# Altium schematic symbol library Connector-PinHeader.SchLib: 41 symbols
Pins are listed as number, name and electrical type; pins without a type are passive.

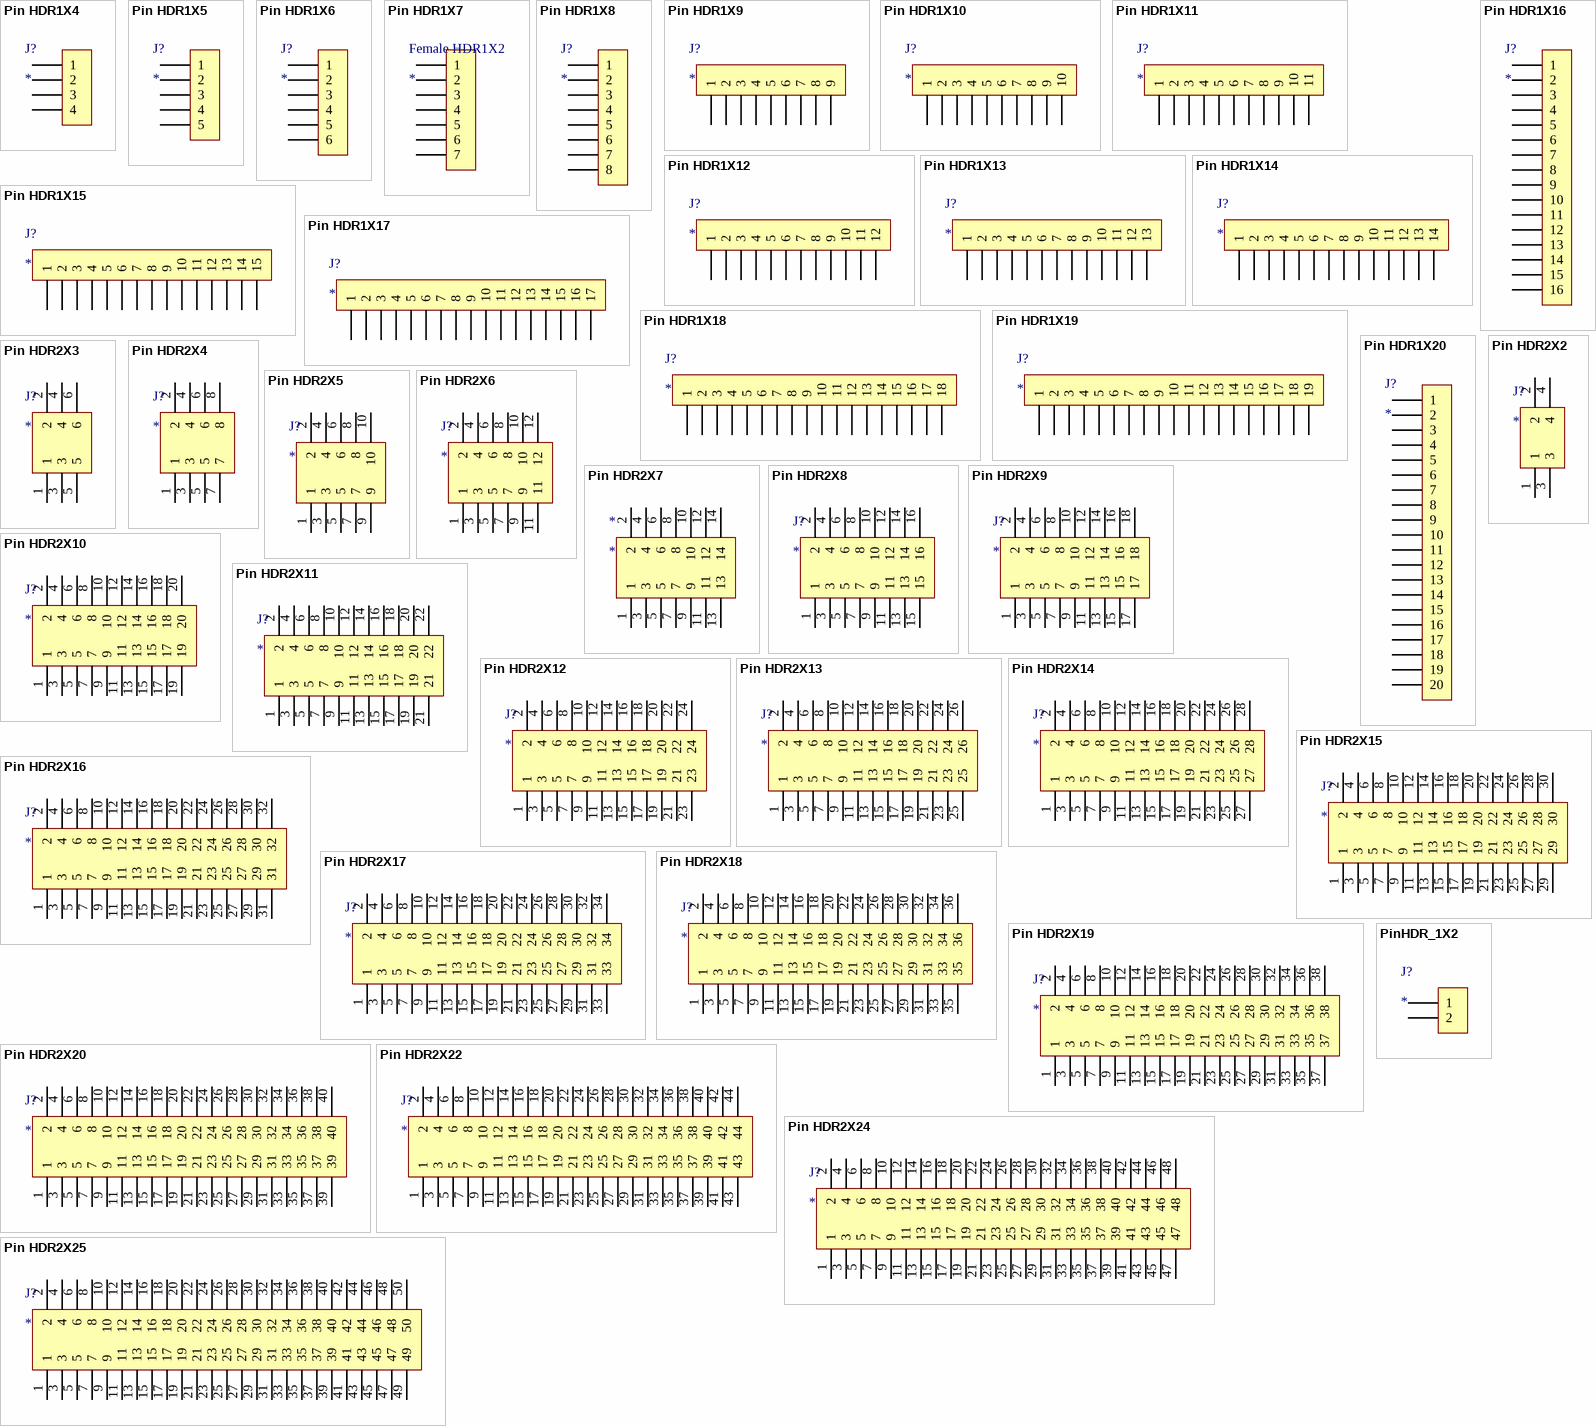
[diagram p0: symbols Pin HDR1X4 to PinHDR_1X2]

## Pin HDR1X4
designator J?
footprint Pin HDR1X4/2.54mm-S
footprint Pin HDR1X4/2.54mm-W (Connector; Header; 4 Position; Right Angle)
pins: 1, 2, 3, 4

## Pin HDR1X5
designator J?
footprint Pin HDR1X5/2mm-W
footprint Pin HDR1X5/2.54mm-S
footprint Pin HDR1X5/2.54mm-W (Connector; Header; 5 Position; Right Angle)
pins: 1, 2, 3, 4, 5

## Pin HDR1X6
designator J?
footprint Pin HDR1X6/2.54mm-S
footprint Pin HDR1X6/2.54mm-W (Connector; Header; 6 Position; Right Angle)
pins: 1, 2, 3, 4, 5, 6

## Pin HDR1X7
designator Female HDR1X2
footprint Pin HDR1X7/2.54mm-S
footprint Pin HDR1X7/2.54mm-W (Connector; Header; 7 Position; Right Angle)
footprint Pin HDR1X7/2mm-S
pins: 1, 2, 3, 4, 5, 6, 7

## Pin HDR1X8
designator J?
footprint Pin HDR1X8/2.54mm-S
footprint Pin HDR1X8/2.54mm-W (Connector; Header; 8 Position; Right Angle)
pins: 1, 2, 3, 4, 5, 6, 7, 8

## Pin HDR1X9
designator J?
footprint Pin HDR1X9/2.54mm-S (Connector; Header; 9 Position)
footprint Pin HDR1X9/2.54mm-W (Connector; Header; 9 Position; Right Angle)
pins: 1, 2, 3, 4, 5, 6, 7, 8, 9

## Pin HDR1X10
designator J?
footprint Pin HDR1X10/2.54mm-S
footprint Pin HDR1X10/2.54mm-W (Connector; Header; 10 Position; Right Angle)
pins: 1, 2, 3, 4, 5, 6, 7, 8, 9, 10

## Pin HDR1X11
designator J?
footprint Pin HDR1X11/2.54mm-S (Connector; Header; 11 Position)
footprint Pin HDR1X11/2.54mm-W (Connector; Header; 11 Position; Right Angle)
pins: 1, 2, 3, 4, 5, 6, 7, 8, 9, 10, 11

## Pin HDR1X12
designator J?
footprint Pin HDR1X12/2.54mm-S (Connector; Header; 12 Position)
footprint Pin HDR1X12/2.54mm-W (Connector; Header; 12 Position; Right Angle)
pins: 1, 2, 3, 4, 5, 6, 7, 8, 9, 10, 11, 12

## Pin HDR1X13
designator J?
footprint Pin HDR1X13/2.54mm-S
footprint Pin HDR1X13/2.54mm-W (Connector; Header; 13 Position; Right Angle)
pins: 1, 2, 3, 4, 5, 6, 7, 8, 9, 10, 11, 12, 13

## Pin HDR1X14
designator J?
footprint Pin HDR1X14/2.54mm-S (Connector; Header; 14 Position)
footprint Pin HDR1X14/2.54mm-W (Connector; Header; 14 Position; Right Angle)
pins: 1, 2, 3, 4, 5, 6, 7, 8, 9, 10, 11, 12, 13, 14

## Pin HDR1X15
designator J?
footprint Pin HDR1X15/2.54mm-S (Connector; Header; 15 Position)
footprint Pin HDR1X15/2.54mm-W (Connector; Header; 15 Position; Right Angle)
pins: 1, 2, 3, 4, 5, 6, 7, 8, 9, 10, 11, 12, 13, 14, 15

## Pin HDR1X16
designator J?
footprint Pin HDR1X16/2.54mm-S
footprint Pin HDR1X16/2.54mm-W (Connector; Header; 16 Position; Right Angle)
pins: 1, 2, 3, 4, 5, 6, 7, 8, 9, 10, 11, 12, 13, 14, 15, 16

## Pin HDR1X17
designator J?
footprint Pin HDR1X17/2.54mm-S (Connector; Header; 17 Position)
footprint Pin HDR1X17/2.54mm-W (Connector; Header; 17 Position; Right Angle)
pins: 1, 2, 3, 4, 5, 6, 7, 8, 9, 10, 11, 12, 13, 14, 15, 16, 17

## Pin HDR1X18
designator J?
footprint Pin HDR1X18/2.54mm-S (Connector; Header; 18 Position)
footprint Pin HDR1X18/2.54mm-W (Connector; Header; 18 Position; Right Angle)
pins: 1, 2, 3, 4, 5, 6, 7, 8, 9, 10, 11, 12, 13, 14, 15, 16, 17, 18

## Pin HDR1X19
designator J?
footprint Pin HDR1X19/2.54mm-S (Connector; Header; 19 Position)
footprint Pin HDR1X19/2.54mm-W (Connector; Header; 19 Position; Right Angle)
pins: 1, 2, 3, 4, 5, 6, 7, 8, 9, 10, 11, 12, 13, 14, 15, 16, 17, 18, 19

## Pin HDR1X20
designator J?
footprint Pin HDR1X20/2.54mm-S
footprint Pin HDR1X20/2.54mm-W (Connector; Header; 20 Position; Right Angle)
pins: 1, 2, 3, 4, 5, 6, 7, 8, 9, 10, 11, 12, 13, 14, 15, 16, 17, 18, 19, 20

## Pin HDR2X2
designator J?
footprint Pin HDR2X2/2.54mm-S (Connector; Header; 2x2 Position)
footprint Pin HDR2X2/2.54mm-W (Connector; Header; 2x2 Position; Right Angle)
pins: 1, 2, 3, 4

## Pin HDR2X3
designator J?
footprint Pin HDR2X3/2.54mm-S (Connector; Header; 3x2 Position)
footprint Pin HDR2X3/2.54mm-W (Connector; Header; 3x2 Position; Right Angle)
pins: 1, 2, 3, 4, 5, 6

## Pin HDR2X4
designator J?
footprint Pin HDR2X4/2.54mm-S (Connector; Header; 4x2 Position)
footprint Pin HDR2X4/2.54mm-W (Connector; Header; 4x2 Position; Right Angle)
pins: 1, 2, 3, 4, 5, 6, 7, 8

## Pin HDR2X5
designator J?
footprint Pin HDR2X5/2.54mm-S (Connector; Header; 5x2 Position)
footprint Pin HDR2X5/2.54mm-W (Connector; Header; 5x2 Position; Right Angle)
pins: 1, 2, 3, 4, 5, 6, 7, 8, 9, 10

## Pin HDR2X6
designator J?
footprint Pin HDR2X6/2.54mm-S (Connector; Header; 6x2 Position)
footprint Pin HDR2X6/2.54mm-W (Connector; Header; 6x2 Position; Right Angle)
pins: 1, 2, 3, 4, 5, 6, 7, 8, 9, 10, 11, 12

## Pin HDR2X7
designator *
footprint Pin HDR2X7/2.54mm-S (Connector; Header; 7x2 Position)
footprint Pin HDR2X7/2.54mm-W (Connector; Header; 7x2 Position; Right Angle)
pins: 1, 2, 3, 4, 5, 6, 7, 8, 9, 10, 11, 12, 13, 14

## Pin HDR2X8
designator J?
footprint Pin HDR2X8/2.54mm-S (Connector; Header; 8x2 Position)
footprint Pin HDR2X8/2.54mm-W (Connector; Header; 8x2 Position; Right Angle)
pins: 1, 2, 3, 4, 5, 6, 7, 8, 9, 10, 11, 12, 13, 14, 15, 16

## Pin HDR2X9
designator J?
footprint Pin HDR2X9/2.54mm-S (Connector; Header; 9x2 Position)
footprint Pin HDR2X9/2.54mm-W (Connector; Header; 9x2 Position; Right Angle)
pins: 1, 2, 3, 4, 5, 6, 7, 8, 9, 10, 11, 12, 13, 14, 15, 16, 17, 18

## Pin HDR2X10
designator J?
footprint Pin HDR2X10/2.54mm-S (Connector; Header; 10x2 Position)
footprint Pin HDR2X10/2.54mm-W (Connector; Header; 10x2 Position; Right Angle)
pins: 1, 2, 3, 4, 5, 6, 7, 8, 9, 10, 11, 12, 13, 14, 15, 16, 17, 18, 19, 20

## Pin HDR2X11
designator J?
footprint Pin HDR2X11/2.54mm-S (Connector; Header; 11x2 Position)
footprint Pin HDR2X11/2.54mm-W (Connector; Header; 11x2 Position; Right Angle)
pins: 1, 2, 3, 4, 5, 6, 7, 8, 9, 10, 11, 12, 13, 14, 15, 16, 17, 18, 19, 20, 21, 22

## Pin HDR2X12
designator J?
footprint Pin HDR2X12/2.54mm-S (Connector; Header; 12x2 Position)
footprint Pin HDR2X12/2.54mm-W (Connector; Header; 12x2 Position; Right Angle)
pins: 1, 2, 3, 4, 5, 6, 7, 8, 9, 10, 11, 12, 13, 14, 15, 16, 17, 18, 19, 20, 21, 22, 23, 24

## Pin HDR2X13
designator J?
footprint Pin HDR2X13/2.54mm-S (Connector; Header; 13x2 Position)
footprint Pin HDR2X13/2.54mm-W (Connector; Header; 13x2 Position; Right Angle)
pins: 1, 2, 3, 4, 5, 6, 7, 8, 9, 10, 11, 12, 13, 14, 15, 16, 17, 18, 19, 20, 21, 22, 23, 24, 25, 26

## Pin HDR2X14
designator J?
footprint Pin HDR2X14/2.54mm-S (Connector; Header; 14x2 Position)
footprint Pin HDR2X14/2.54mm-W (Connector; Header; 14x2 Position; Right Angle)
pins: 1, 2, 3, 4, 5, 6, 7, 8, 9, 10, 11, 12, 13, 14, 15, 16, 17, 18, 19, 20, 21, 22, 23, 24, 25, 26, 27, 28

## Pin HDR2X15
designator J?
footprint Pin HDR2X15/2.54mm-S (Connector; Header; 15x2 Position)
footprint Pin HDR2X15/2.54mm-W (Connector; Header; 15x2 Position; Right Angle)
pins: 1, 2, 3, 4, 5, 6, 7, 8, 9, 10, 11, 12, 13, 14, 15, 16, 17, 18, 19, 20, 21, 22, 23, 24, 25, 26, 27, 28, 29, 30

## Pin HDR2X16
designator J?
footprint Pin HDR2X16/2.54mm-S (Connector; Header; 16x2 Position)
footprint Pin HDR2X16/2.54mm-W (Connector; Header; 16x2 Position; Right Angle)
pins: 1, 2, 3, 4, 5, 6, 7, 8, 9, 10, 11, 12, 13, 14, 15, 16, 17, 18, 19, 20, 21, 22, 23, 24, 25, 26, 27, 28, 29, 30, 31, 32

## Pin HDR2X17
designator J?
footprint Pin HDR2X17/2.54mm-S (Connector; Header; 17x2 Position)
footprint Pin HDR2X17/2.54mm-W (Connector; Header; 17x2 Position; Right Angle)
pins: 1, 2, 3, 4, 5, 6, 7, 8, 9, 10, 11, 12, 13, 14, 15, 16, 17, 18, 19, 20, 21, 22, 23, 24, 25, 26, 27, 28, 29, 30, 31, 32, 33, 34

## Pin HDR2X18
designator J?
footprint Pin HDR2X18/2.54mm-S (Connector; Header; 18x2 Position)
footprint Pin HDR2X18/2.54mm-W (Connector; Header; 18x2 Position; Right Angle)
pins: 1, 2, 3, 4, 5, 6, 7, 8, 9, 10, 11, 12, 13, 14, 15, 16, 17, 18, 19, 20, 21, 22, 23, 24, 25, 26, 27, 28, 29, 30, 31, 32, 33, 34, 35, 36

## Pin HDR2X19
designator J?
footprint Pin HDR2X19/2.54mm-W (Connector; Header; 19x2 Position; Right Angle)
footprint Pin HDR2X19/2.54mm-S (Connector; Header; 19x2 Position)
pins: 1, 2, 3, 4, 5, 6, 7, 8, 9, 10, 11, 12, 13, 14, 15, 16, 17, 18, 19, 20, 21, 22, 23, 24, 25, 26, 27, 28, 29, 30, 31, 32, 33, 34, 35, 36, 37, 38

## Pin HDR2X20
designator J?
footprint Pin HDR2X20/2.54mm-S (Connector; Header; 20x2 Position)
footprint Pin HDR2X20/2.54mm-W (Connector; Header; 20x2 Position; Right Angle)
pins: 1, 2, 3, 4, 5, 6, 7, 8, 9, 10, 11, 12, 13, 14, 15, 16, 17, 18, 19, 20, 21, 22, 23, 24, 25, 26, 27, 28, 29, 30, 31, 32, 33, 34, 35, 36, 37, 38, 39, 40

## Pin HDR2X22
designator J?
footprint Pin HDR2X22/2.54mm-W (Connector; Header; 22x2 Position; Right Angle)
pins: 1, 2, 3, 4, 5, 6, 7, 8, 9, 10, 11, 12, 13, 14, 15, 16, 17, 18, 19, 20, 21, 22, 23, 24, 25, 26, 27, 28, 29, 30, 31, 32, 33, 34, 35, 36, 37, 38, 39, 40, 41, 42, 43, 44

## Pin HDR2X24
designator J?
footprint Pin HDR2X24/2.54mm-W (Connector; Header; 24x2 Position; Right Angle)
pins: 1, 2, 3, 4, 5, 6, 7, 8, 9, 10, 11, 12, 13, 14, 15, 16, 17, 18, 19, 20, 21, 22, 23, 24, 25, 26, 27, 28, 29, 30, 31, 32, 33, 34, 35, 36, 37, 38, 39, 40, 41, 42, 43, 44, 45, 46, 47, 48

## Pin HDR2X25
designator J?
footprint Pin HDR2X25/2.54mm-W (Connector; Header; 25x2 Position; Right Angle)
pins: 1, 2, 3, 4, 5, 6, 7, 8, 9, 10, 11, 12, 13, 14, 15, 16, 17, 18, 19, 20, 21, 22, 23, 24, 25, 26, 27, 28, 29, 30, 31, 32, 33, 34, 35, 36, 37, 38, 39, 40, 41, 42, 43, 44, 45, 46, 47, 48, 49, 50

## PinHDR_1X2
designator J?
footprint Pin HDR1X2/2.54mm-S
footprint Pin HDR1X2/2.54mm-W (Connector; Header; 2 Position; Right Angle)
pins: 1, 2

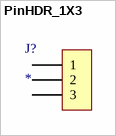
[diagram p1: symbol PinHDR_1X3]

## PinHDR_1X3
designator J?
footprint Pin HDR1X3/2.54mm-S
footprint Pin HDR1X3/2.54mm-W (Connector; Header; 3 Position; Right Angle)
pins: 1, 2, 3